# EAGLE library part ARDUINO-CONN-8X2 (library MIDI router MCU parts)
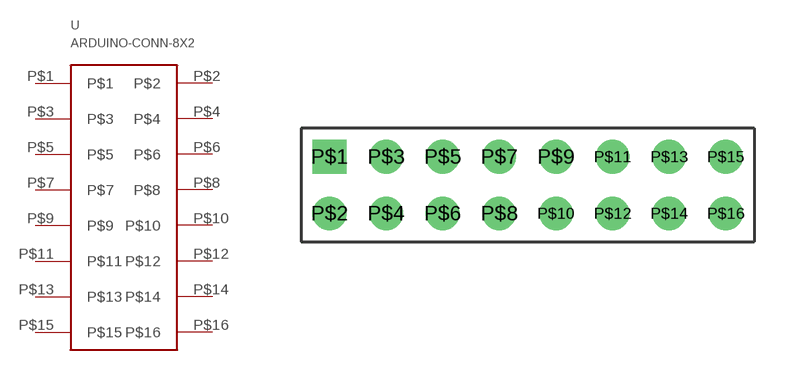
[diagram p11: symbol with the pads of ARDUINO-CONN-8X2; footprint ARDUINO-CONN-8X2]

Designator prefix -

## ARDUINO-CONN-8X2  [ARDUINO-CONN-8X2]
P$1  P$1
P$2  P$2
P$3  P$3
P$4  P$4
P$5  P$5
P$6  P$6
P$7  P$7
P$8  P$8
P$9  P$9
P$10  P$10
P$11  P$11
P$12  P$12
P$13  P$13
P$14  P$14
P$15  P$15
P$16  P$16

## Footprint ARDUINO-CONN-8X2 (pad centres in mm)
drill 1 square: P$1 0,0
drill 1: P$2 0,-2.54; P$3 2.54,0; P$4 2.54,-2.54; P$5 5.08,0; P$6 5.08,-2.54; P$7 7.62,0; P$8 7.62,-2.54; P$9 10.16,0; P$10 10.16,-2.54; P$11 12.7,0; P$12 12.7,-2.54; P$13 15.24,0; P$14 15.24,-2.54; P$15 17.78,0; P$16 17.78,-2.54